# Altium schematic symbol library RT0603DRE071R1L.SchLib: 1 symbol
Pins are listed as number, name and electrical type; pins without a type are passive.

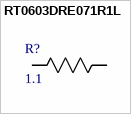
[diagram p0: symbol RT0603DRE071R1L]

## RT0603DRE071R1L
designator R?, comment 1.1
YAGEO, RT, Thin Film, SMD Chip, 1.1 Ohms, 0.5%, 0603 / 1608; Manufacturer_Part_Number: RT0603DRE071R1L; Copyright: Copyright (C) 2025 Ultra Librarian. All rights reserved.; Manufacturer_Name: YAGEO
footprint RC0603N_PAN
pins: 1, 2